# EAGLE library part PCW1J-R24-BAD252 (library PCW1J-R24-BAD252)
Potentiometers 2.5K 20% Sq 22mm Single Turn Source: Datasheet <https://componentsearchengine.com/Datasheets/1/PCW1J-R24-BAD252.pdf>
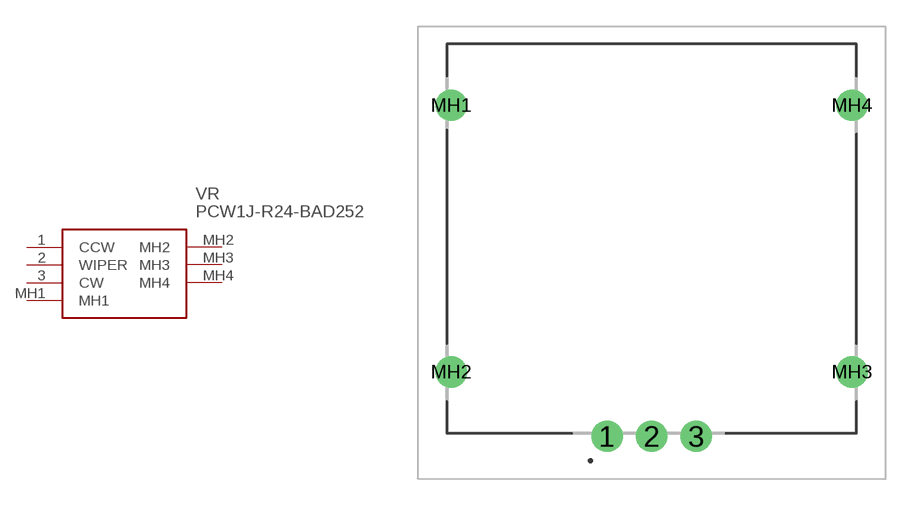
[diagram p0: symbol with the pads of PCW1JR24BAD252; footprint PCW1JR24BAD252]

Designator prefix VR

## PCW1J-R24-BAD252 (Description: Potentiometers 2.5K 20% Sq 22mm Single Turn; Height: 27.31mm; Manufacturer_Name: Bourns; Manufacturer_Part_Number: PCW1J-R24-BAD252; Mouser_Part_Number: 652-PCW1J-R24-BAD252; Mouser_Price-Stock: https://www.mouser.com/Search/Refine.aspx?Keyword=652-PCW1J-R24-BAD252)  [PCW1JR24BAD252]
1  CCW
2  WIPER
3  CW
MH1  MH1
MH2  MH2
MH3  MH3
MH4  MH4

## Footprint PCW1JR24BAD252 (pad centres in mm)
PCW1J-R24-BAD252-9
drill 1.19 pad 1.785: 1 0,0; 2 2.54,0; 3 5.08,0; MH1 -8.89,18.87; MH2 -8.89,3.67; MH3 13.97,3.67; MH4 13.97,18.87